# Altium schematic symbol library Connectors.SchLib: 20 symbols
Pins are listed as number, name and electrical type; pins without a type are passive.

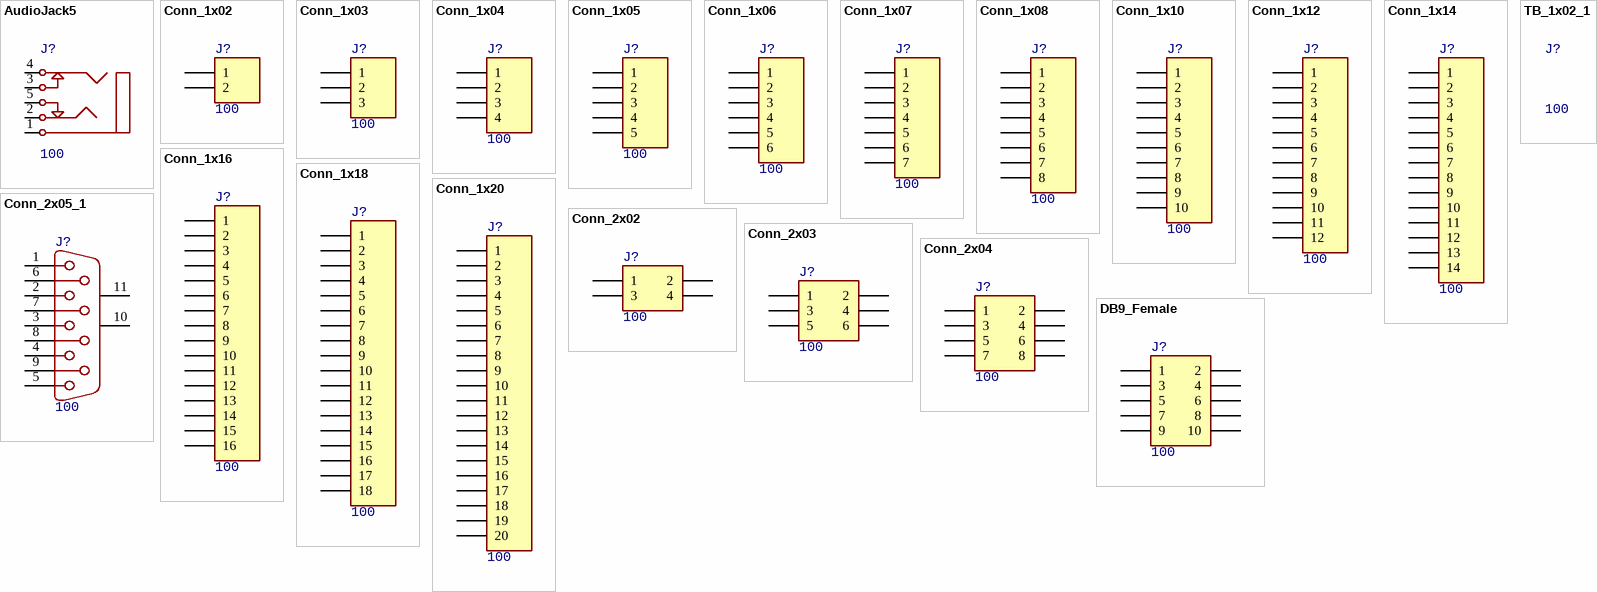
[diagram p0: symbols AudioJack5 to TB_1x02_1]

## AudioJack5
designator J?, comment 100
Connector; Value: 100; Manufacture: *; PartNo: *; Package: =Footprint; HelpURL: *
pins: 1, 1A, 1B, 2, 2A, 2B, 3, 3A, 3B, 4, 4A, 4B, 5, 5A, 5B

## Conn_1x02
designator J?, comment 100
Connector; Value: 100; Manufacture: *; PartNo: *; Package: =Footprint; HelpURL: *
pins: 1, 2

## Conn_1x03
designator J?, comment 100
Connector; Value: 100; Manufacture: *; PartNo: *; Package: =Footprint; HelpURL: *
footprint RES: Axial-0.25 1/8W (RESISTOR 1/8 WATT, AXIAL0.25)
footprint RES: Axial-0.4 1/4W (RESISTOR 1/4 WATT, AXIAL0.4)
footprint RES: Axial-0.25 1/8W V (RESISTOR 1/8 WATT, AXIAL0.25)
footprint RES: Axial-0.4 1/4W V (RESISTOR 1/4 WATT, AXIAL0.4)
footprint RES: Axial-0.3 1/8W (RESISTOR 1/8 WATT, AXIAL0.3 INCH SPACING)
pins: 1, 2, 3

## Conn_1x04
designator J?, comment 100
Connector; Value: 100; Manufacture: *; PartNo: *; Package: =Footprint; HelpURL: *
pins: 1, 2, 3, 4

## Conn_1x05
designator J?, comment 100
Connector; Value: 100; Manufacture: *; PartNo: *; Package: =Footprint; HelpURL: *
pins: 1, 2, 3, 4, 5

## Conn_1x06
designator J?, comment 100
Connector; Value: 100; Manufacture: *; PartNo: *; Package: =Footprint; HelpURL: *
pins: 1, 2, 3, 4, 5, 6

## Conn_1x07
designator J?, comment 100
Connector; Value: 100; Manufacture: *; PartNo: *; Package: =Footprint; HelpURL: *
pins: 1, 2, 3, 4, 5, 6, 7

## Conn_1x08
designator J?, comment 100
Connector; Value: 100; Manufacture: *; PartNo: *; Package: =Footprint; HelpURL: *
pins: 1, 2, 3, 4, 5, 6, 7, 8

## Conn_1x10
designator J?, comment 100
Connector; Value: 100; Manufacture: *; PartNo: *; Package: =Footprint; HelpURL: *
pins: 1, 2, 3, 4, 5, 6, 7, 8, 9, 10

## Conn_1x12
designator J?, comment 100
Connector; Value: 100; Manufacture: *; PartNo: *; Package: =Footprint; HelpURL: *
pins: 1, 2, 3, 4, 5, 6, 7, 8, 9, 10, 11, 12

## Conn_1x14
designator J?, comment 100
Connector; Value: 100; Manufacture: *; PartNo: *; Package: =Footprint; HelpURL: *
pins: 1, 2, 3, 4, 5, 6, 7, 8, 9, 10, 11, 12, 13, 14

## Conn_1x16
designator J?, comment 100
Connector; Value: 100; Manufacture: *; PartNo: *; Package: =Footprint; HelpURL: *
pins: 1, 2, 3, 4, 5, 6, 7, 8, 9, 10, 11, 12, 13, 14, 15, 16

## Conn_1x18
designator J?, comment 100
Connector; Value: 100; Manufacture: *; PartNo: *; Package: =Footprint; HelpURL: *
pins: 1, 2, 3, 4, 5, 6, 7, 8, 9, 10, 11, 12, 13, 14, 15, 16, 17, 18

## Conn_1x20
designator J?, comment 100
Connector; Value: 100; Manufacture: *; PartNo: *; Package: =Footprint; HelpURL: *
pins: 1, 2, 3, 4, 5, 6, 7, 8, 9, 10, 11, 12, 13, 14, 15, 16, 17, 18, 19, 20

## Conn_2x02
designator J?, comment 100
Connector; Value: 100; Manufacture: *; PartNo: *; Package: =Footprint; HelpURL: *
pins: 1, 2, 3, 4

## Conn_2x03
designator J?, comment 100
Connector; Value: 100; Manufacture: *; PartNo: *; Package: =Footprint; HelpURL: *
pins: 1, 2, 3, 4, 5, 6

## Conn_2x04
designator J?, comment 100
Connector; Value: 100; Manufacture: *; PartNo: *; Package: =Footprint; HelpURL: *
pins: 1, 2, 3, 4, 5, 6, 7, 8

## Conn_2x05_1
designator J?, comment 100
Connector; Value: 100; Manufacture: *; PartNo: *; Package: =Footprint; HelpURL: *
pins: 1, 2, 3, 4, 5, 6, 7, 8, 9, 10 MH1, 11 MH2

## DB9_Female
designator J?, comment 100
Connector; Value: 100; Manufacture: *; PartNo: *; Package: =Footprint; HelpURL: *
pins: 1, 2, 3, 4, 5, 6, 7, 8, 9, 10

## TB_1x02_1
designator J?, comment 100
Connector; Value: 100; Manufacture: *; PartNo: *; Package: =Footprint; HelpURL: *